# EAGLE library part AT91SAM7S (library ARM micom_MORISHITA)
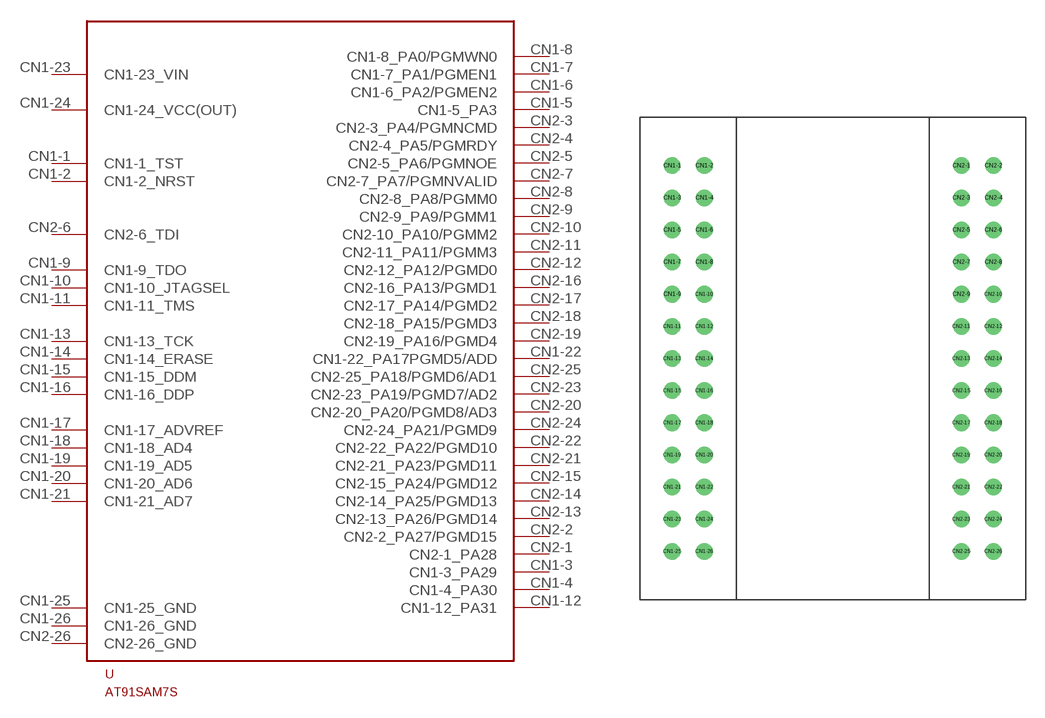
[diagram p1: symbol with the pads of AT91SAM7S_TESTTECH; footprint AT91SAM7S_TESTTECH]

Designator prefix U

## AT91SAM7SBEST_TECH  [AT91SAM7S_TESTTECH]
CN1-1  CN1-1_TST
CN1-2  CN1-2_NRST
CN1-3  CN1-3_PA29
CN1-4  CN1-4_PA30
CN1-5  CN1-5_PA3
CN1-6  CN1-6_PA2/PGMEN2
CN1-7  CN1-7_PA1/PGMEN1
CN1-8  CN1-8_PA0/PGMWN0
CN1-9  CN1-9_TDO
CN1-10  CN1-10_JTAGSEL
CN1-11  CN1-11_TMS
CN1-12  CN1-12_PA31
CN1-13  CN1-13_TCK
CN1-14  CN1-14_ERASE
CN1-15  CN1-15_DDM
CN1-16  CN1-16_DDP
CN1-17  CN1-17_ADVREF
CN1-18  CN1-18_AD4
CN1-19  CN1-19_AD5
CN1-20  CN1-20_AD6
CN1-21  CN1-21_AD7
CN1-22  CN1-22_PA17PGMD5/ADD
CN1-23  CN1-23_VIN
CN1-24  CN1-24_VCC(OUT)  pwr
CN1-25  CN1-25_GND  pwr
CN1-26  CN1-26_GND  pwr
CN2-1  CN2-1_PA28
CN2-2  CN2-2_PA27/PGMD15
CN2-3  CN2-3_PA4/PGMNCMD
CN2-4  CN2-4_PA5/PGMRDY
CN2-5  CN2-5_PA6/PGMNOE
CN2-6  CN2-6_TDI
CN2-7  CN2-7_PA7/PGMNVALID
CN2-8  CN2-8_PA8/PGMM0
CN2-9  CN2-9_PA9/PGMM1
CN2-10  CN2-10_PA10/PGMM2
CN2-11  CN2-11_PA11/PGMM3
CN2-12  CN2-12_PA12/PGMD0
CN2-13  CN2-13_PA26/PGMD14
CN2-14  CN2-14_PA25/PGMD13
CN2-15  CN2-15_PA24/PGMD12
CN2-16  CN2-16_PA13/PGMD1
CN2-17  CN2-17_PA14/PGMD2
CN2-18  CN2-18_PA15/PGMD3
CN2-19  CN2-19_PA16/PGMD4
CN2-20  CN2-20_PA20/PGMD8/AD3
CN2-21  CN2-21_PA23/PGMD11
CN2-22  CN2-22_PA22/PGMD10
CN2-23  CN2-23_PA19/PGMD7/AD2
CN2-24  CN2-24_PA21/PGMD9
CN2-25  CN2-25_PA18/PGMD6/AD1
CN2-26  CN2-26_GND  pwr

## Footprint AT91SAM7S_TESTTECH (pad centres in mm)
AT91SAM7S Best Technology micom board ARM7 micom series. producted by ATMEL.Co
drill 0.8 round: CN1-1 -12.7,15.24; CN1-2 -10.16,15.24; CN1-3 -12.7,12.7; CN1-4 -10.16,12.7; CN1-5 -12.7,10.16; CN1-6 -10.16,10.16; CN1-7 -12.7,7.62; CN1-8 -10.16,7.62; CN1-9 -12.7,5.08; CN1-10 -10.16,5.08; CN1-11 -12.7,2.54; CN1-12 -10.16,2.54; CN1-13 -12.7,0; CN1-14 -10.16,0; CN1-15 -12.7,-2.54; CN1-16 -10.16,-2.54; CN1-17 -12.7,-5.08; CN1-18 -10.16,-5.08; CN1-19 -12.7,-7.62; CN1-20 -10.16,-7.62; CN1-21 -12.7,-10.16; CN1-22 -10.16,-10.16; CN1-23 -12.7,-12.7; CN1-24 -10.16,-12.7; CN1-25 -12.7,-15.24; CN1-26 -10.16,-15.24; CN2-1 10.16,15.24; CN2-2 12.7,15.24; CN2-3 10.16,12.7; CN2-4 12.7,12.7; CN2-5 10.16,10.16; CN2-6 12.7,10.16; CN2-7 10.16,7.62; CN2-8 12.7,7.62; CN2-9 10.16,5.08; CN2-10 12.7,5.08; CN2-11 10.16,2.54; CN2-12 12.7,2.54; CN2-13 10.16,0; CN2-14 12.7,0; CN2-15 10.16,-2.54; CN2-16 12.7,-2.54; CN2-17 10.16,-5.08; CN2-18 12.7,-5.08; CN2-19 10.16,-7.62; CN2-20 12.7,-7.62; CN2-21 10.16,-10.16; CN2-22 12.7,-10.16; CN2-23 10.16,-12.7; CN2-24 12.7,-12.7; CN2-25 10.16,-15.24; CN2-26 12.7,-15.24